# Altium schematic symbol library W25Q16JWXHIQ.SchLib: 1 symbol
Pins are listed as number, name and electrical type; pins without a type are passive.

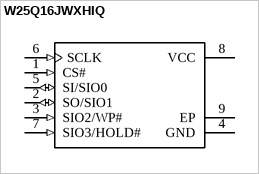
[diagram p0: symbol W25Q16JWXHIQ]

## W25Q16JWXHIQ
designator ?
16Mbit 1.65V~1.95V 133MHz SPI XSON-8-EP(2x3) Memory (ICs) ROHS
pins: 1 CS# (in) "Chip Select", 2 SO/SIO1 (io) "Serial Data Output (for 1 x I/O) / Serial Data Output (for Dual Output mode)", 3 SIO2/WP# (in) "Write Protection", 4 GND (power) "Ground", 5 SI/SIO0 (io) "Serial Data Input (for 1 x I/O) / Serial Data Input and Output (for Dual Output mode)", 6 SCLK (in) "Clock Input", 7 SIO3/HOLD# (in) "Hold, to pause the device without deselecting the device", 8 VCC (power) "+ 1.65 - 3.6V Power Supply", 9 EP